# EAGLE library part LIS3MDL-GY (library NA-2025)
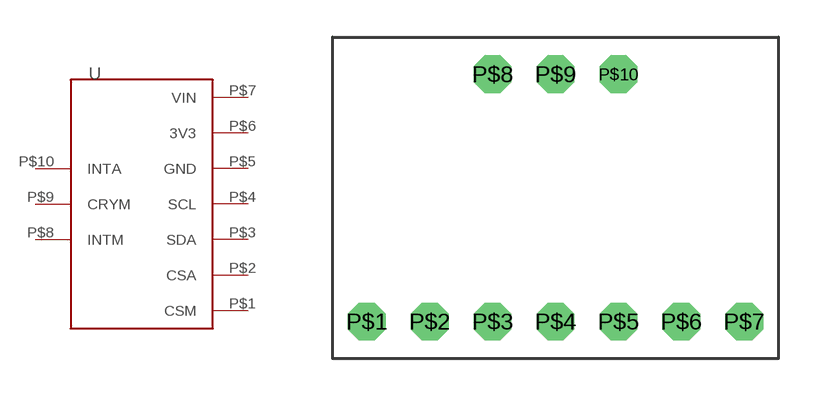
[diagram p27: symbol with the pads of LIS3MDL-GY; footprint LIS3MDL-GY]

Designator prefix -

## LIS3MDL-GY  [LIS3MDL-GY]
P$1  CSM
P$2  CSA
P$3  SDA
P$4  SCL
P$5  GND
P$6  3V3
P$7  VIN
P$8  INTM
P$9  CRYM
P$10  INTA

## Footprint LIS3MDL-GY (pad centres in mm)
drill 1.016 octagon: P$1 -7.62,-5; P$2 -5.08,-5; P$3 -2.54,-5; P$4 0,-5; P$5 2.54,-5; P$6 5.08,-5; P$7 7.62,-5; P$8 -2.54,5; P$9 0,5; P$10 2.54,5